# Altium footprint library SR PCB Library V01.PcbLib: 402 footprints (part 7 of 26)
Each footprint in its own frame and in the unit in brackets; x right, y up, seen from the top. Pads: shape width x height; smd on the part's side, far side on the other; paste and mask are expansions set on the pad; w line width, h text height; cw(c..) or ccw(c..) is an arc to the next point about the centre after c.
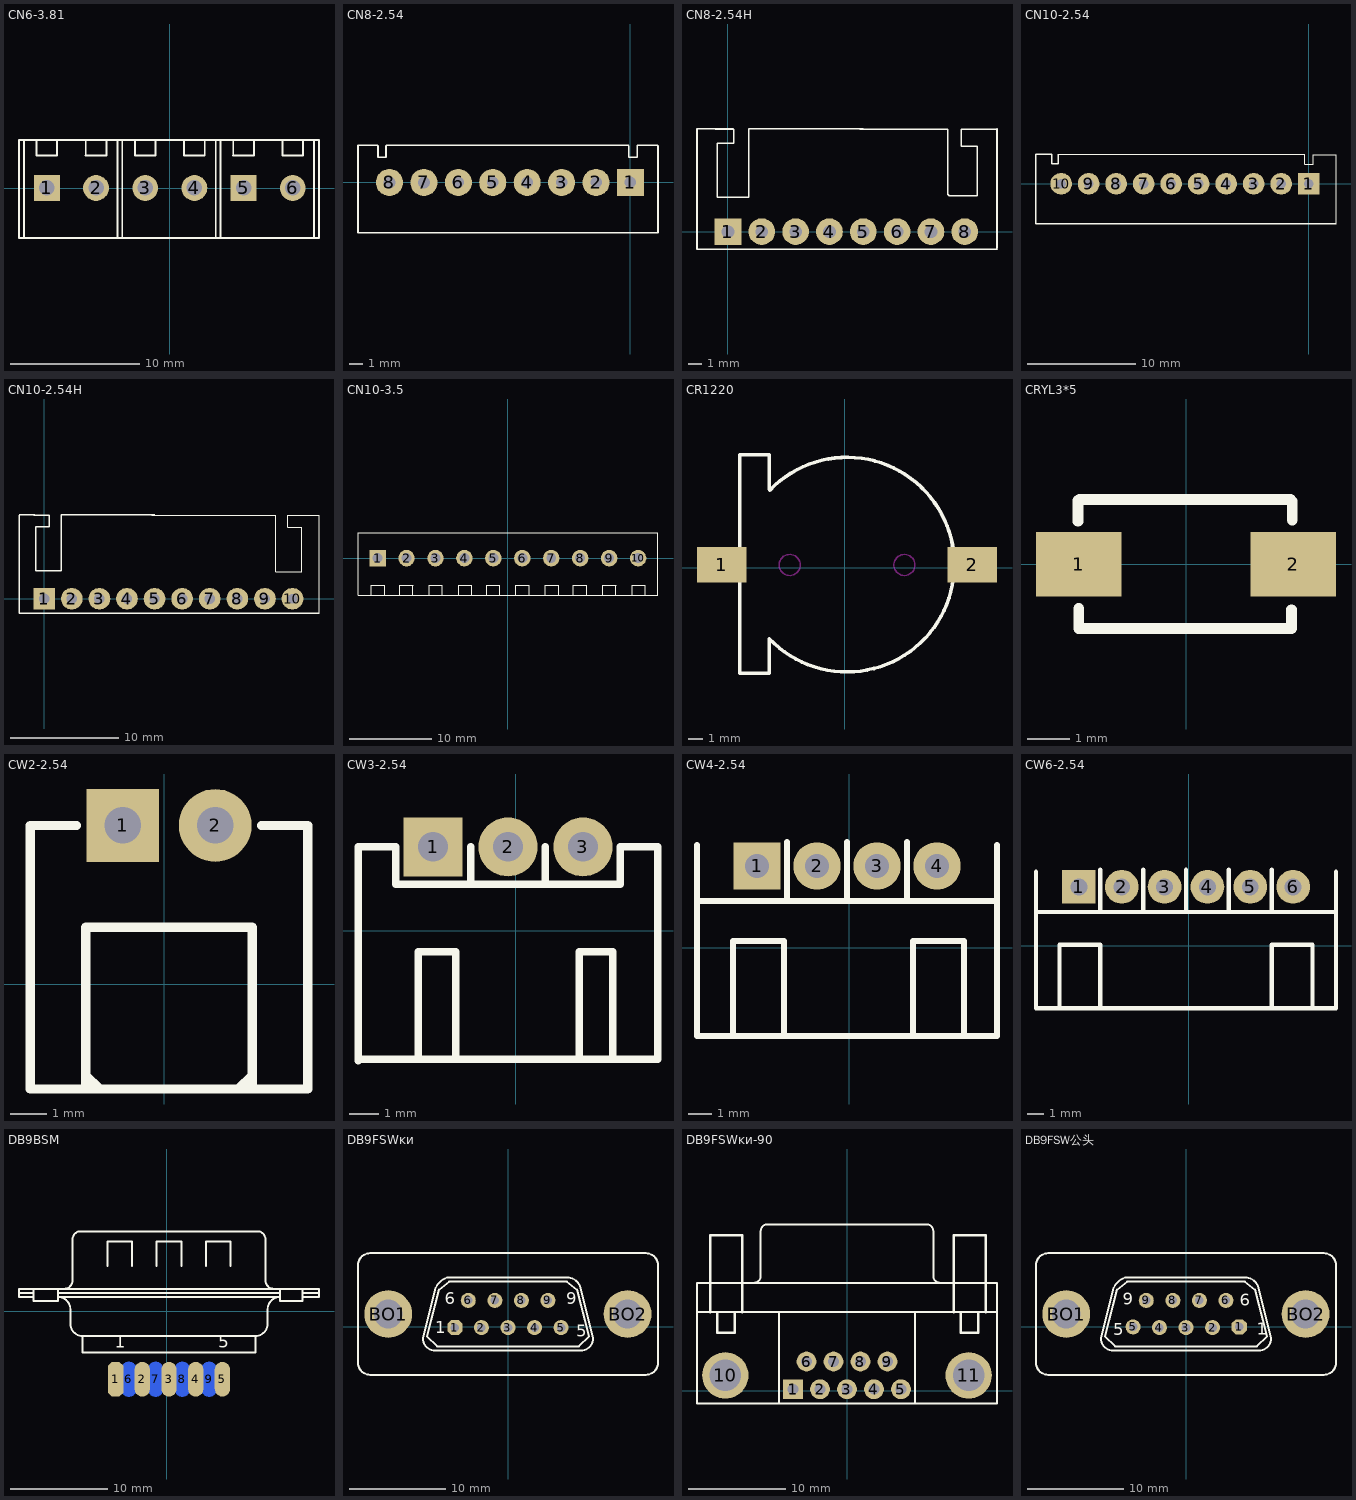
[diagram p6: the footprints below, top view; thin cyan lines are the x and y axes]

## CN6-3.81 [mm]
pads (6):
  rect 2x2 hole 1.2: 1(-9.525,0.025) 5(5.715,0.025)
  round 2 hole 1.2: 2(-5.715,0.025) 3(-1.905,0.025) 4(1.905,0.025) 6(9.525,0.025)
Top Overlay:
  lines w0.15: -11.303,-3.855 -11.303,3.725 ; -10.325,3.725 -10.325,2.535 -10.335,2.525 -8.725,2.525 ; -6.515,3.725 -6.515,2.535 -6.525,2.525 -4.915,2.525 -4.915,3.715 -4.925,3.725 ; -4.064,3.725 -4.064,-3.855 ; -3.683,3.725 -3.683,-3.855 ; -2.705,3.725 -2.705,2.535 -2.715,2.525 -1.105,2.525 ; 1.105,3.725 1.105,2.535 1.095,2.525 2.705,2.525 2.705,3.715 2.695,3.725 ; 3.556,3.725 3.556,-3.855 ; 3.937,3.725 3.937,-3.855 ; 4.915,3.725 4.915,2.535 4.905,2.525 6.515,2.525 ; 8.725,3.725 8.725,2.535 8.715,2.525 10.325,2.525 10.325,3.715 10.315,3.725 ; 11.176,-3.855 11.176,3.725 ; -8.725,2.525 -8.725,3.715 ; -8.725,2.525 -8.725,3.715 ; -8.725,3.715 -8.735,3.725 -8.725,3.715 ; -4.064,-3.855 -4.064,3.746 3.937,3.746 3.937,-3.855 ; -4.064,-3.855 3.937,-3.855 ; -3.683,-3.855 -3.683,3.746 -11.684,3.746 -11.684,-3.855 -3.683,-3.855 ; -1.105,2.525 -1.105,3.715 ; -1.105,2.525 -1.105,3.715 ; -1.105,3.715 -1.115,3.725 -1.105,3.715 ; 3.556,-3.855 3.556,3.746 11.557,3.746 11.557,-3.855 3.556,-3.855 ; 6.515,2.525 6.515,3.715 ; 6.515,2.525 6.515,3.715 ; 6.515,3.715 6.505,3.725 6.515,3.715

## CN8-2.54 [mm]
pads (8):
  rect 2x2 hole 0.85: 1(0,0)
  round 2 hole 0.85: 2(-2.54,0) 3(-5.08,0) 4(-7.62,0) 5(-10.16,0) 6(-12.7,0)
  round 2 hole 0.9: 7(-15.24,0) 8(-17.78,0)
Top Overlay:
  lines w0.1: -18.03,2.73 -0.14,2.73 ; -0.14,1.86 -0.14,2.7 ; 0.5,2.73 2.02,2.73
  lines w0.12: -18.643,1.851 -18.049,1.851 ; -18.626,1.868 -18.626,2.716 -18.643,2.733 -20.102,2.733 -20.102,-3.7 2.03,-3.7 2.03,2.72 2.02,2.73 ; -18.032,1.868 -18.032,2.716 ; -0.14,1.86 0.5,1.86 0.5,2.73

## CN8-2.54H [mm]
height 11
pads (8):
  rect 2x2 hole 0.95: 1(0,0)
  round 2 hole 0.95: 2(2.54,0) 3(5.08,0) 4(7.62,0) 5(10.16,0) 6(12.7,0) 7(15.24,0) 8(17.78,0)
Top Overlay:
  lines w0.1: 9.9,7.7 16.5,7.7 16.5,2.8 16.6,2.7 18.7,2.7 18.7,6.4 17.5,6.4 17.5,7.7 20.2,7.7
  lines w0.12: -2.322,7.688 -2.322,-1.312 20.2,-1.312 ; -2.322,7.711 -0.863,7.711 ; 1.565,7.711 10.16,7.711 ; 20.2,-1.233 20.2,5.2
  lines w0.127: -0.944,7.705 0.396,7.705 0.447,7.654 0.447,6.663 0.421,6.638 0.04,6.638 -0.773,6.638 -0.798,6.612 -0.798,2.574 1.539,2.574 1.565,2.6 1.565,7.711 ; 20.2,5.088 20.2,7.711

## CN10-2.54 [mm]
pads (10):
  rect 2x2 hole 0.85: 1(0,0)
  round 2 hole 0.85: 2(-2.54,0) 3(-5.08,0) 4(-7.62,0) 5(-10.16,0) 6(-12.7,0)
  round 2 hole 0.9: 7(-15.24,0) 8(-17.78,0) 9(-20.32,0) 10(-22.86,0)
Top Overlay:
  lines w0.1: -23.11,2.73 -0.38,2.73 ; -0.38,2.7 -0.38,1.8 0.42,1.8 0.42,2.7 2.52,2.7 2.52,-3.7
  lines w0.12: -23.723,1.851 -23.129,1.851 ; -23.706,1.868 -23.706,2.716 -23.723,2.733 -25.182,2.733 -25.182,-3.7 2.52,-3.7 ; -23.112,1.868 -23.112,2.716

## CN10-2.54H [mm]
height 11
pads (10):
  rect 2x2 hole 0.95: 1(0,0)
  round 2 hole 0.95: 2(2.54,0) 3(5.08,0) 4(7.62,0) 5(10.16,0) 6(12.7,0) 7(15.24,0) 8(17.78,0)
  round 2 hole 0.9: 9(20.32,0) 10(22.86,0)
Top Overlay:
  lines w0.1: 9.9,7.7 21.3,7.7 21.3,2.5 23.7,2.5 23.7,6.6 22.4,6.6 22.4,7.7 25.3,7.7 25.3,-1.312
  lines w0.12: -2.322,7.688 -2.322,-1.312 25.3,-1.312 ; -2.322,7.711 -0.863,7.711 ; 1.565,7.711 10.16,7.711
  lines w0.127: -0.944,7.705 0.396,7.705 0.447,7.654 0.447,6.663 0.421,6.638 0.04,6.638 -0.773,6.638 -0.798,6.612 -0.798,2.574 1.539,2.574 1.565,2.6 1.565,7.711

## CN10-3.5 [mm] "欧式接线端子，KF2EDGV-Y-3.5-10P-14，4PIN，3.5mm，公母头套装"
height 10
pads (10):
  rect 2x2 hole 1.2: 1(-15.75,0)
  round 2 hole 1.2: 2(-12.25,0) 3(-8.75,0) 4(-5.25,0) 5(-1.75,0) 6(1.75,0) 7(5.25,0) 8(8.75,0) 9(12.25,0) 10(15.75,0)
Top Overlay:
  lines w0.1: -16.497,-4.5 -16.507,-4.49 -16.507,-3.3 -14.897,-3.3 -14.907,-3.31 -14.907,-4.5 ; -13.068,-4.5 -13.078,-4.49 -13.078,-3.3 -11.468,-3.3 -11.478,-3.31 -11.478,-4.5 ; -9.512,-4.5 -9.522,-4.49 -9.522,-3.3 -7.912,-3.3 -7.922,-3.31 -7.922,-4.5 ; -5.956,-4.5 -5.966,-4.49 -5.966,-3.3 -4.356,-3.3 -4.366,-3.31 -4.366,-4.5 ; -2.568,-4.5 -2.578,-4.49 -2.578,-3.3 -0.968,-3.3 -0.978,-3.31 -0.978,-4.5 ; 0.988,-4.5 0.978,-4.49 0.978,-3.3 2.588,-3.3 2.578,-3.31 2.578,-4.5 ; 4.544,-4.5 4.534,-4.49 4.534,-3.3 6.144,-3.3 6.134,-3.31 6.134,-4.5 ; 7.932,-4.5 7.922,-4.49 7.922,-3.3 9.532,-3.3 9.522,-3.31 9.522,-4.5 ; 11.488,-4.5 11.478,-4.49 11.478,-3.3 13.088,-3.3 13.078,-3.31 13.078,-4.5 ; 15.044,-4.5 15.034,-4.49 15.034,-3.3 16.644,-3.3 16.634,-3.31 16.634,-4.5 ; -18.12,-4.5 -18.12,3.08 18.159,3.08 18.159,-4.5 -18.12,-4.5

## CR1220 [mm]
pads (2):
  rect 3.5x2.5 smd: 1(-8.738,0.229) 2(9.042,0.229)
Top Overlay:
  lines w0.254: -7.468,-7.474 -5.353,-7.474 -5.353,-5.027 ccw(c0.152,0.229) -5.314,5.525 -5.353,5.564 -5.353,8.02 -7.468,8.02 -7.468,-7.474
Keep-Out Layer:
  circle w0.1: c-3.912,0.203 r0.75
  circle w0.1: c4.216,0.203 r0.75

## CRYL3*5 [mm]
pads (2):
  rect 2x1.5 smd: 1(-2.5,0) 2(2.5,0)
Top Overlay:
  lines w0.254: -2.516,1.002 -2.516,1.484 -2.488,1.512 2.436,1.512 2.478,1.47 2.478,1.031 ; -2.502,-1.035 -2.502,-1.502 2.464,-1.502 2.464,-1.063

## CW2-2.54 [mm]
pads (2):
  rect 2x2 hole 1: 1(-1.143,4.369)
  round 2 hole 1: 2(1.397,4.369)
Top Overlay:
  lines w0.254: -3.623,4.369 -2.413,4.369 ; -3.556,4.369 -3.683,4.369 -3.683,-2.87 3.937,-2.87 3.937,4.369 ; -2.159,-2.87 -2.159,1.575 2.413,1.575 2.413,-2.87 ; -2.159,-2.235 -2.159,-2.489 -1.778,-2.87 ; 2.032,-2.87 2.413,-2.489 ; 2.667,4.369 3.877,4.369

## CW3-2.54 [mm]
pads (3):
  rect 2x2 hole 1: 1(-2.794,2.845)
  round 2 hole 1: 2(-0.254,2.845) 3(2.286,2.845)
Top Overlay:
  lines w0.254: -5.334,-4.394 -5.334,2.845 -4.064,2.845 -4.064,1.575 3.556,1.575 3.556,2.845 4.826,2.845 4.826,-4.267 ; -5.334,-4.355 4.826,-4.355 ; -3.302,-4.267 -3.302,-0.711 -2.032,-0.711 -2.032,-4.267 ; -1.524,1.702 -1.524,2.845 ; 1.016,1.575 1.016,2.845 ; 2.159,-4.267 2.159,-0.711 3.302,-0.711 3.302,-4.267

## CW4-2.54 [mm]
pads (4):
  rect 2x2 hole 1: 1(-3.912,3.454)
  round 2 hole 1: 2(-1.372,3.454) 3(1.168,3.454) 4(3.708,3.454)
Top Overlay:
  lines w0.254: -6.452,-3.746 6.248,-3.746 ; -6.452,-3.658 -6.452,4.343 ; -6.452,1.964 1.168,1.964 ; -4.928,-3.658 -4.928,0.279 -2.769,0.279 -2.769,-3.658 ; -2.642,2.057 -2.642,4.47 ; -1.372,1.964 6.248,1.964 ; -0.102,2.057 -0.102,4.47 ; 2.438,2.057 2.438,4.47 ; 2.692,-3.658 2.692,0.279 4.851,0.279 4.851,-3.658 ; 6.248,-3.658 6.248,4.343 ; -3.912,1.964 3.708,1.964 -3.912,1.964

## CW6-2.54 [mm]
pads (6):
  rect 2x2 hole 1: 1(-6.502,3.48)
  round 2 hole 1: 2(-3.962,3.48) 3(-1.422,3.48) 4(1.118,3.48) 5(3.658,3.48) 6(6.198,3.48)
Top Overlay:
  lines w0.254: -9.042,-3.72 8.738,-3.72 ; -9.042,-3.632 -9.042,4.369 ; -9.042,1.99 -1.422,1.99 6.198,1.99 ; -7.645,-3.632 -7.645,0.051 -5.232,0.051 -5.232,-3.632 ; -6.502,1.99 1.118,1.99 8.738,1.99 ; -5.232,2.083 -5.232,4.496 ; -2.692,2.083 -2.692,4.496 ; -0.152,2.083 -0.152,4.496 ; 2.388,2.083 2.388,4.496 ; 4.928,-3.632 4.928,0.051 7.341,0.051 7.341,-3.632 ; 4.928,2.083 4.928,4.496 ; 8.738,-3.632 8.738,4.369 8.738,-3.632

## DB9BSM [mil]
pads (9):
  oct 62.5x141.67 smd: 1(-207,-275)
  oval 62.5x141.67 smd: 2(-98.67,-275) 3(9.67,-275) 4(118,-275) 5(226.33,-275)
  oval 62.5x141.67 smd far side: 6(-152.83,-275) 7(-44.5,-275) 8(63.83,-275) 9(172.17,-275)
Top Overlay:
  lines w8: -598.67,75 -540.33,75 ; -540.33,58.33 -598.67,58.33 -598.67,91.67 618,91.67 618,58.33 551.33,58.33 ; -540.33,91.67 -540.33,41.67 -440.33,41.67 -440.33,91.67 ; -440.33,75 459.67,75 ; -415.33,91.67 ccw(c-415.33,125) -382,125 -382,291.67 cw(c-348.67,291.67) -348.67,325 368,325 cw(c368,291.67) 401.33,291.67 401.33,125 ccw(c434.67,125) 434.67,91.67 ; -240.33,183.33 -240.33,283.33 -140.33,283.33 -140.33,183.33 ; -40.33,183.33 -40.33,283.33 59.67,283.33 59.67,183.33 ; 159.67,183.33 159.67,283.33 259.67,283.33 259.67,183.33 ; 459.67,91.67 459.67,41.67 551.33,41.67 551.33,91.67 ; 551.33,75 618,75 ; -340.33,-100 cw(c-340.33,-50) -390.33,-50 -390.33,8.33 ccw(c-440.33,8.33) -440.33,58.33 459.67,58.33 ccw(c459.67,8.33) 409.67,8.33 409.67,-50 cw(c359.67,-50) 359.67,-100 ; -340.33,-100 359.67,-100 ; -340.33,-100 -340.33,-166.67 359.67,-166.67 359.67,-100
  text "5" at 209.67,-146.67 h50
  text "1" at -210.33,-146.67 h50

## DB9FSWĸͷ [mil] "ĸͷ"
pads (11):
  oct 62x62 hole 35: 1(-219,-3)
  round 62 hole 35: 2(-109.83,-3) 3(-0.67,-3) 4(108.5,-3) 5(217.67,-3) 6(-164,108.67) 7(-54.83,108.67) 8(54.33,108.67) 9(163.5,108.67)
  round 196.67 hole 118.33: BO1(-493.17,52.83) BO2(491,52.83)
Top Overlay:
  lines w8: -617.33,252.83 cw(c-567.33,252.83) -567.33,302.83 566,302.83 cw(c566,252.83) 616,252.83 616,-147.17 cw(c566,-147.17) 566,-197.17 -567.33,-197.17 cw(c-567.33,-147.17) -617.33,-147.17 -617.33,261.17 ; -300.67,152.83 -350.67,-47.17 ccw(c-300.67,-47.17) -300.67,-97.17 299.33,-97.17 ccw(c299.33,-47.17) 349.33,-47.17 299.33,152.83 ; -297.99,160.03 cw(c-225.67,127.83) -250.13,203.12 ; -250.67,202.83 249.33,202.83 ; 249.23,203.09 cw(c241,144.5) 299.59,152.73 ; -334,-38.83 -292.33,-80.5 291,-80.5 332.67,-38.83 282.67,152.83 241,186.17 -242.33,186.17 -284,152.83 -334,-38.83
  text "9" at 239.33,92.83 h50
  text "5" at 280.33,-40.97 h50
  text "1" at -300.67,-27.17 h50
  text "6" at -260.67,92.83 h50

## DB9FSWĸͷ-90 [mil]
pads (11):
  rect 80x80 hole 42.91: 1(-220,7)
  round 80 hole 42.91: 2(-110.94,7) 3(-1.89,7) 4(107.17,7) 5(216.22,7) 6(-165.47,118.81) 7(-56.42,118.81) 8(52.64,118.81) 9(161.69,118.81)
  round 187.4 hole 128.35: 10(-493.82,62.91) 11(490.04,62.91)
Top Overlay:
  lines w7.87: -608.19,318.81 604.41,318.81 ; -378.27,437.12 ccw(c-378.27,464.48) -350.91,464.48 -350.91,645.58 ; -350.71,645.78 cw(c-323.35,645.78) -323.35,673.14 319.57,673.14 cw(c319.57,645.78) 346.93,645.78 ; -277.48,-51.27 -277.48,318.81 ; 273.7,-51.27 273.7,318.81 ; 347.13,645.58 347.13,464.48 ccw(c374.49,464.48) 374.49,437.12 ; -608.19,-51.27 -608.19,436.92 604.41,436.92 604.41,-51.27 -608.19,-51.27
  lines w10: -554.65,318.02 -554.65,629.05 -424.72,629.05 -424.72,318.81 ; -527.09,318.81 -527.09,235.35 -456.22,235.35 -456.22,318.81 ; 429.61,318.02 429.61,629.05 559.53,629.05 559.53,318.81 ; 457.17,318.81 457.17,235.35 528.03,235.35 528.03,318.81

## DB9FSW公头 [mil] "ĸͷ"
pads (11):
  oct 62x62 hole 35: 1(218.11,0)
  round 62 hole 35: 2(108.5,-3) 3(-0.67,-3) 4(-109.83,-3) 5(-218.11,0) 6(163.5,108.67) 7(54.33,108.67) 8(-54.83,108.67) 9(-164,108.67)
  round 196.67 hole 118.33: BO1(-493.17,52.83) BO2(491,52.83)
Top Overlay:
  lines w8: -617.33,252.83 cw(c-567.33,252.83) -567.33,302.83 566,302.83 cw(c566,252.83) 616,252.83 616,-147.17 cw(c566,-147.17) 566,-197.17 -567.33,-197.17 cw(c-567.33,-147.17) -617.33,-147.17 -617.33,261.17 ; -300.67,152.83 -350.67,-47.17 ccw(c-300.67,-47.17) -300.67,-97.17 299.33,-97.17 ccw(c299.33,-47.17) 349.33,-47.17 299.33,152.83 ; -297.99,160.03 cw(c-225.67,127.83) -250.13,203.12 ; -250.67,202.83 249.33,202.83 ; 249.23,203.09 cw(c241,144.5) 299.59,152.73 ; -334,-38.83 -292.33,-80.5 291,-80.5 332.67,-38.83 282.67,152.83 241,186.17 -242.33,186.17 -284,152.83 -334,-38.83
  text "9" at -259.84,90.55 h50
  text "5" at -299.21,-35.43 h50
  text "1" at 289.37,-31.5 h50
  text "6" at 220.47,86.61 h50